# Altium schematic symbol library Parts.SchLib: 5 symbols
Pins are listed as number, name and electrical type; pins without a type are passive.

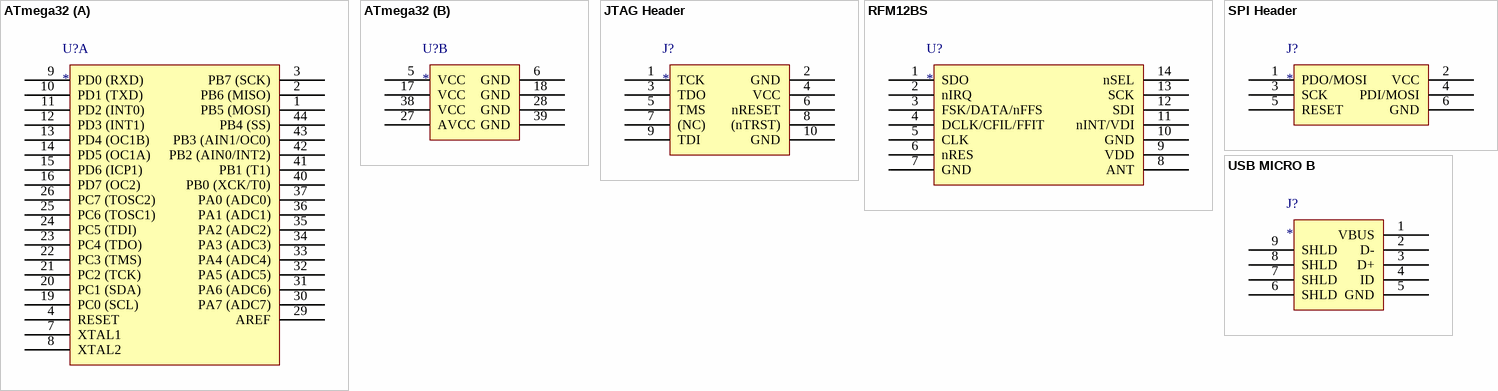
[diagram p0: symbols ATmega32 to USB MICRO B]

## ATmega32
designator U?
part A pins: 1 PB5 (MOSI), 2 PB6 (MISO), 3 PB7 (SCK), 4 RESET, 7 XTAL1, 8 XTAL2, 9 PD0 (RXD), 10 PD1 (TXD), 11 PD2 (INT0), 12 PD3 (INT1), 13 PD4 (OC1B), 14 PD5 (OC1A), 15 PD6 (ICP1), 16 PD7 (OC2), 19 PC0 (SCL), 20 PC1 (SDA), 21 PC2 (TCK), 22 PC3 (TMS), 23 PC4 (TDO), 24 PC5 (TDI), 25 PC6 (TOSC1), 26 PC7 (TOSC2), 29 AREF, 30 PA7 (ADC7), 31 PA6 (ADC6), 32 PA5 (ADC5), 33 PA4 (ADC4), 34 PA3 (ADC3), 35 PA2 (ADC2), 36 PA1 (ADC1), 37 PA0 (ADC0), 40 PB0 (XCK/T0), 41 PB1 (T1), 42 PB2 (AIN0/INT2), 43 PB3 (AIN1/OC0), 44 PB4 (SS)
part B pins: 5 VCC, 6 GND, 17 VCC, 18 GND, 27 AVCC, 28 GND, 38 VCC, 39 GND

## JTAG Header
designator J?
pins: 1 TCK, 2 GND, 3 TDO, 4 VCC, 5 TMS, 6 nRESET, 7 (NC), 8 (nTRST), 9 TDI, 10 GND

## RFM12BS
designator U?
pins: 1 SDO, 2 nIRQ, 3 FSK/DATA/nFFS, 4 DCLK/CFIL/FFIT, 5 CLK, 6 nRES, 7 GND, 8 ANT, 9 VDD, 10 GND, 11 nINT/VDI, 12 SDI, 13 SCK, 14 nSEL

## SPI Header
designator J?
pins: 1 PDO/MOSI, 2 VCC, 3 SCK, 4 PDI/MOSI, 5 RESET, 6 GND

## USB MICRO B
designator J?
pins: 1 VBUS, 2 D-, 3 D+, 4 ID, 5 GND, 6 SHLD, 7 SHLD, 8 SHLD, 9 SHLD